# Altium footprint library LED_QBL8RGB60D0-2897.PcbLib: 1 footprints
Each footprint in its own frame and in the unit in brackets; x right, y up, seen from the top. Pads: shape width x height; smd on the part's side, far side on the other; paste and mask are expansions set on the pad; w line width, h text height; cw(c..) or ccw(c..) is an arc to the next point about the centre after c.
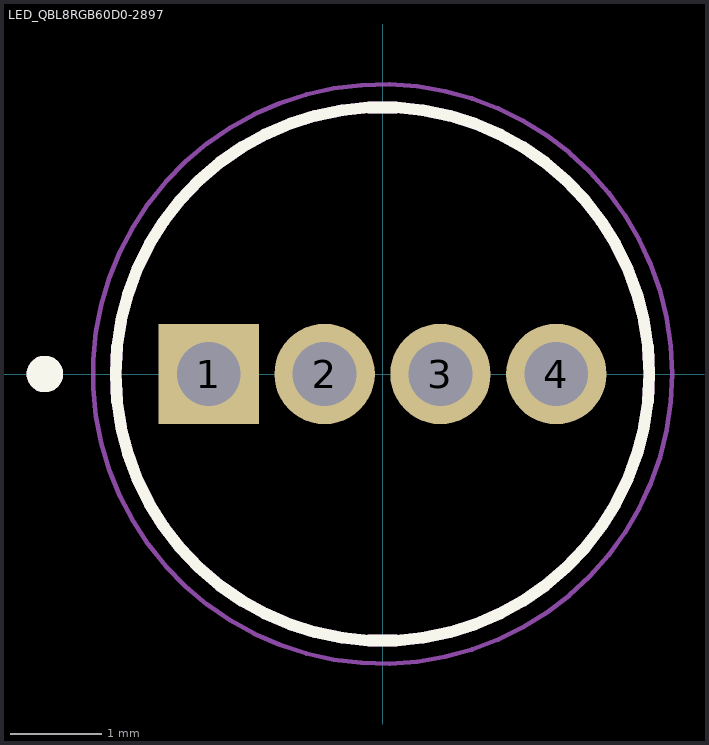
[diagram p0: the footprint, top view; thin cyan lines are the x and y axes]

## LED_QBL8RGB60D0-2897 [mm]
height 8.65
pads (4):
  rect 1.1x1.1 / inner round 1.1 / far side rect 1.1x1.1 hole 0.7: 1(-1.905,0)
  round 1.1 hole 0.7: 2(-0.635,0) 3(0.635,0) 4(1.905,0)
Top Overlay:
  circle w0.127: c0,0 r2.925
  circle w0.2: c-3.7,0 r0.1
Assembly Top:
  circle w0.127: c0,0 r2.925
  circle w0.2: c-3.7,0 r0.1
Courtyard Top:
  circle w0.05: c0,0 r3.175
3D body "step_temp.STEP": height 8.65, standoff -27, extent -2.925,-2.925 2.4,2.925